# EAGLE library part WSSFM10R (library Deegou_IC)
SIGFOX MODULE RCZ1 AT VERSION Source: Datasheet <http://www.erikrasmussen.dk/wisol_wssfm10r1at.pdf>
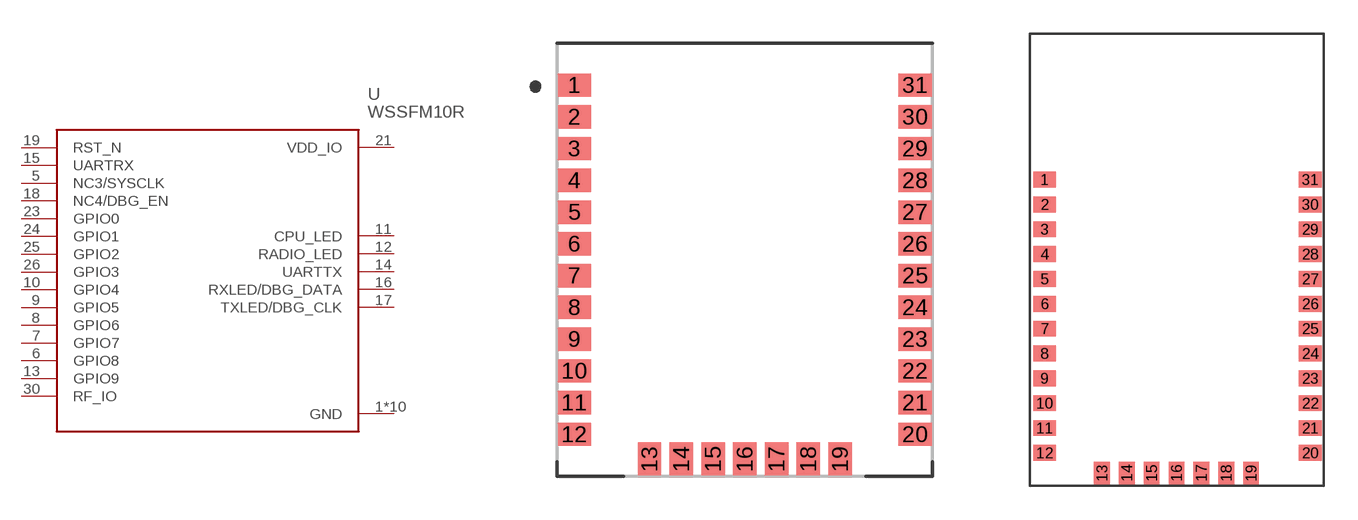
[diagram p134: symbol with the pads of WSSFM10R1AT; footprints WSSFM10R1AT, WSSFM10R2/R4]

Designator prefix U

## WSSFM10R-RC1  [WSSFM10R1AT]
1  GND  in
2  GND  in
3  GND  in
4  GND  in
5  NC3/SYSCLK
6  GPIO8
7  GPIO7
8  GPIO6
9  GPIO5
10  GPIO4
11  CPU_LED
12  RADIO_LED
13  GPIO9
14  UARTTX
15  UARTRX
16  RXLED/DBG_DATA
17  TXLED/DBG_CLK
18  NC4/DBG_EN
19  RST_N
20  GND  in
21  VDD_IO
22  GND  in
23  GPIO0
24  GPIO1
25  GPIO2
26  GPIO3
27  GND  in
28  GND  in
29  GND  in
30  RF_IO
31  GND  in

## WSSFM10R-RC2/RC4  [WSSFM10R2/R4]
Pads as for WSSFM10R1AT

## Footprint WSSFM10R1AT (pad centres in mm)
WSSFM10R1AT
smd 1.15 x 0.81: 1 -5.9,6.05; 2 -5.9,4.95; 3 -5.9,3.85; 4 -5.9,2.75; 5 -5.9,1.65; 6 -5.9,0.55; 7 -5.9,-0.55; 8 -5.9,-1.65; 9 -5.9,-2.75; 10 -5.9,-3.85; 11 -5.9,-4.95; 12 -5.9,-6.05; 20 5.9,-6.05; 21 5.9,-4.95; 22 5.9,-3.85; 23 5.9,-2.75; 24 5.9,-1.65; 25 5.9,-0.55; 26 5.9,0.55; 27 5.9,1.65; 28 5.9,2.75; 29 5.9,3.85; 30 5.9,4.95; 31 5.9,6.05
smd 0.81 x 1.15: 13 -3.3,-6.9; 14 -2.2,-6.9; 15 -1.1,-6.9; 16 0,-6.9; 17 1.1,-6.9; 18 2.2,-6.9; 19 3.3,-6.9

## Footprint WSSFM10R2/R4 (pad centres in mm)
smd 1 x 0.7: 1 0.65,13.55; 2 0.65,12.45; 3 0.65,11.35; 4 0.65,10.25; 5 0.65,9.15; 6 0.65,8.05; 7 0.65,6.95; 8 0.65,5.85; 9 0.65,4.75; 10 0.65,3.65; 11 0.65,2.55; 12 0.65,1.45; 20 12.4,1.45; 21 12.4,2.55; 22 12.4,3.65; 23 12.4,4.75; 24 12.4,5.85; 25 12.4,6.95; 26 12.4,8.05; 27 12.4,9.15; 28 12.4,10.25; 29 12.4,11.35; 30 12.4,12.45; 31 12.4,13.55
smd 0.7 x 1: 13 3.18,0.56; 14 4.28,0.56; 15 5.38,0.56; 16 6.48,0.56; 17 7.58,0.56; 18 8.68,0.56; 19 9.78,0.56